# Altium schematic symbol library D_Zener.Schlib: 1 symbol
Pins are listed as number, name and electrical type; pins without a type are passive.

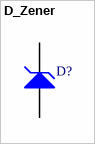
[diagram p0: symbol D_Zener]

## D_Zener
designator D?
VREF SHUNT PREC
simulation model ZENER (Diode)
signal-integrity model D Zener
pins: 1 A, 2 K